# EAGLE library part MCP4022 (library jpnewman)
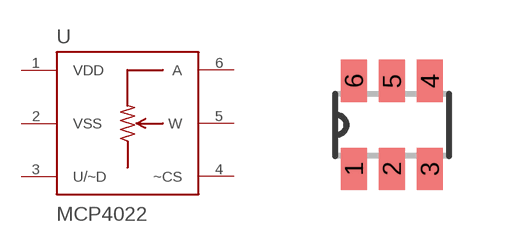
[diagram p17: symbol with the pads of SOT23-6; footprint SOT23-6]

Designator prefix -

## MCP4022  [SOT23-6]
1  VDD
2  VSS
3  U/~D
4  ~CS
5  W
6  A

## Footprint SOT23-6 (pad centres in mm)
Small Outline Transistor 6 lead
smd 0.65 x 1.06: 1 -0.95,-1.1; 2 0,-1.1; 3 0.95,-1.1; 4 0.95,1.1; 5 0,1.1; 6 -0.95,1.1